# EAGLE library part IOMATE.NET (library chip45_EagleLib_090813)
ioMate.NET V1.0 Embedded 10Base-T Ethernet Controller Module with MAC and PHY and Ethernet Transformer.
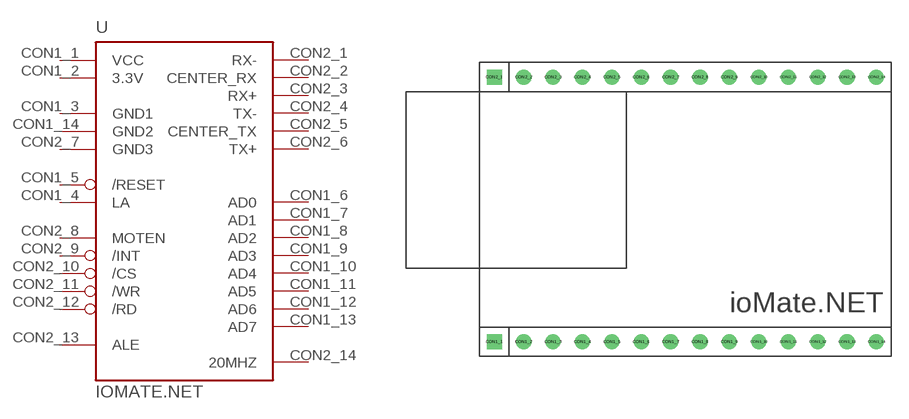
[diagram p15: symbol with the pads of IOMATE.NET; footprint IOMATE.NET]

Designator prefix -

## IOMATE.NET (COMPONENTS: Ethernet Controller, 3.3V LDO voltage regulator, 20MHz crystal, ethernet transforer; ETHERNET_CONTROLLER: Silicon Laboratoties CP2201; ETHERNET_INTERFACE: IEEE 802.3 MAC and 10 Base-T PHY, compatible with 100/1000 Base T networks, full/half duplex with auto-negotiation, parallel 8-bit host interface (fast and only 11 IOs needed))  [IOMATE.NET]
CON1_1  VCC  pwr
CON1_2  3.3V  out
CON1_3  GND1  pwr
CON1_4  LA  in
CON1_5  /RESET  in
CON1_6  AD0
CON1_7  AD1
CON1_8  AD2
CON1_9  AD3
CON1_10  AD4
CON1_11  AD5
CON1_12  AD6
CON1_13  AD7
CON1_14  GND2  pwr
CON2_1  RX-  in
CON2_2  CENTER_RX  in
CON2_3  RX+  in
CON2_4  TX-  out
CON2_5  CENTER_TX  out
CON2_6  TX+  out
CON2_7  GND3  pwr
CON2_8  MOTEN  in
CON2_9  /INT  in
CON2_10  /CS  in
CON2_11  /WR  in
CON2_12  /RD  in
CON2_13  ALE  in
CON2_14  20MHZ  out

## Footprint IOMATE.NET (pad centres in mm)
ioMate.NET V1.0 Embedded 10Base-T Ethernet Controller Module with MAC and PHY and Ethernet Transformer.
drill 0.8 square: CON1_1 -16.51,-11.43; CON2_1 -16.51,11.43
drill 0.8 round: CON1_2 -13.97,-11.43; CON1_3 -11.43,-11.43; CON1_4 -8.89,-11.43; CON1_5 -6.35,-11.43; CON1_6 -3.81,-11.43; CON1_7 -1.27,-11.43; CON1_8 1.27,-11.43; CON1_9 3.81,-11.43; CON1_10 6.35,-11.43; CON1_11 8.89,-11.43; CON1_12 11.43,-11.43; CON1_13 13.97,-11.43; CON1_14 16.51,-11.43; CON2_2 -13.97,11.43; CON2_3 -11.43,11.43; CON2_4 -8.89,11.43; CON2_5 -6.35,11.43; CON2_6 -3.81,11.43; CON2_7 -1.27,11.43; CON2_8 1.27,11.43; CON2_9 3.81,11.43; CON2_10 6.35,11.43; CON2_11 8.89,11.43; CON2_12 11.43,11.43; CON2_13 13.97,11.43; CON2_14 16.51,11.43